# Altium footprint library PcbLib1.PcbLib: 13 footprints
Each footprint in its own frame and in the unit in brackets; x right, y up, seen from the top. Pads: shape width x height; smd on the part's side, far side on the other; paste and mask are expansions set on the pad; w line width, h text height; cw(c..) or ccw(c..) is an arc to the next point about the centre after c.
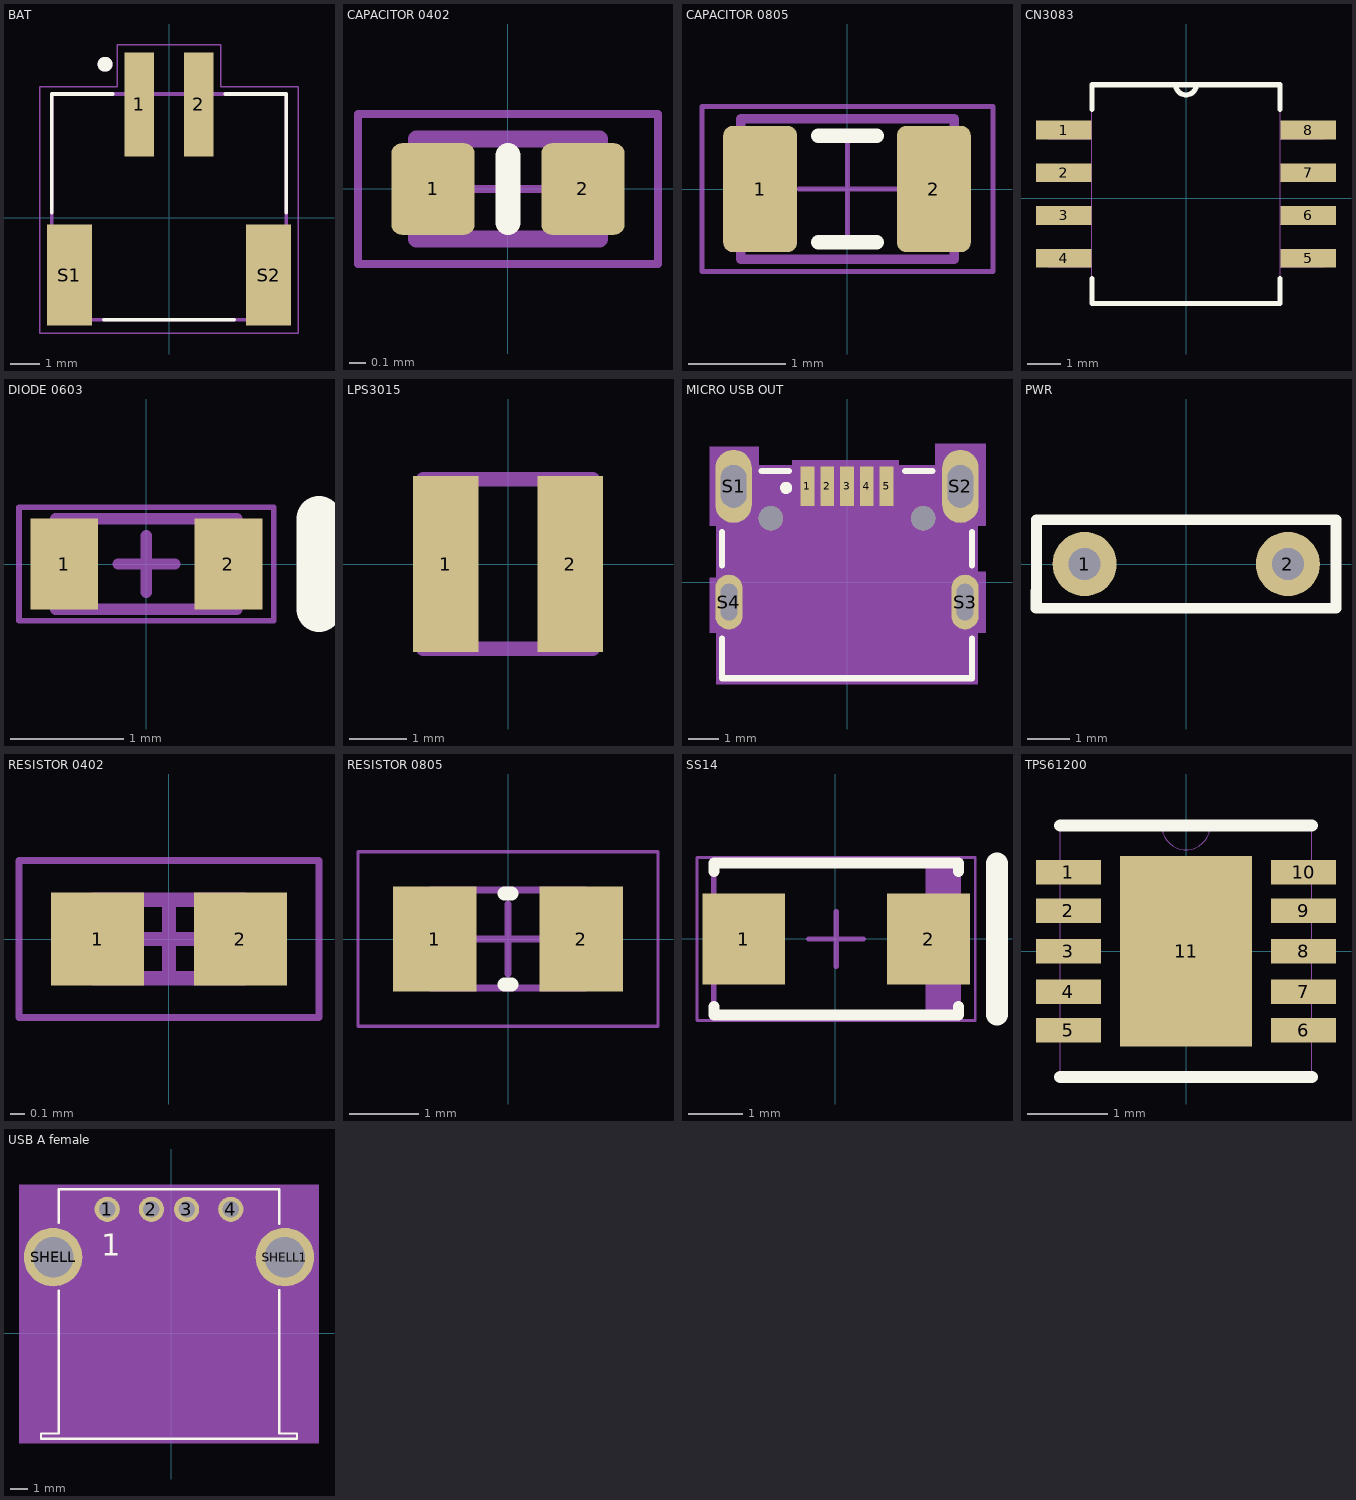
[diagram p0: the footprints below, top view; thin cyan lines are the x and y axes]

## BAT [mm]
pads (4):
  rect 1x3.5 smd: 1(-1,3.81) 2(1,3.81)
  rect 1.5x3.4 smd: S1(-3.35,-1.94) S2(3.35,-1.94)
Top Overlay:
  circle w0.3: c-2.15,5.16 r0.1
  lines w0.127: -3.95,0.16 -3.95,4.16 -1.9,4.16 ; -2.2,-3.44 2.2,-3.44 ; 1.9,4.16 3.95,4.16 3.95,0.16
Mechanical 13:
  circle w0.3: c-2.15,5.16 r0.1
  lines w0.127: -3.95,-3.44 -3.95,4.16 3.95,4.16 3.95,-3.44 -3.95,-3.44
Mechanical 15:
  lines w0.05: -4.35,-3.89 -4.35,4.41 -1.75,4.41 -1.75,5.81 1.75,5.81 1.75,4.41 4.35,4.41 4.35,-3.89 -4.35,-3.89
3D body "User Library-S2B-PH-SM4-TB.STEP": height 5.5, standoff -0.1, extent -3.963,-3.538 3.937,5.062

## CAPACITOR 0402 [mm]
pads (2):
  rrect25% 0.5x0.55 smd: 1(-0.45,0) 2(0.45,0)
Top Overlay:
  lines w0.15: 0,-0.2 0,0.2
Top Courtyard:
  lines w0.05: -0.275,0 0.275,0 ; 0,-0.275 0,0.275 ; -0.9,-0.45 -0.9,0.45 0.9,0.45 0.9,-0.45 -0.9,-0.45
Top Assembly:
  lines w0.1: -0.55,-0.3 0.55,-0.3 0.55,0.3 -0.55,0.3 -0.55,-0.3
Top Designator:
  text ".Designator" at -1.27,-0.127 h0.6
3D body "CAPC1005X60N EIA 0402.STEP": height 0.6, standoff 0, extent -0.5,-0.25 0.5,0.25

## CAPACITOR 0805 [mm]
pads (2):
  rrect25% 0.76x1.3 smd: 1(-0.9,0) 2(0.89,0)
Top Overlay:
  lines w0.15: -0.3,-0.55 0.3,-0.55 ; -0.3,0.55 0.3,0.55
Top Courtyard:
  lines w0.05: -0.5,0 0.5,0 ; 0,-0.5 0,0.5 ; -1.5,-0.85 -1.5,0.85 1.5,0.85 1.5,-0.85 -1.5,-0.85
Top Assembly:
  lines w0.1: -1.1,-0.725 1.1,-0.725 1.1,0.725 -1.1,0.725 -1.1,-0.725
Top Designator:
  text ".Designator" at -1.27,-0.127 h0.6
3D body "CAPC2012X145N EIA 0805.STEP": height 1.45, standoff 0, extent -1,-0.6 1,0.6

## CN3083 [mil]
pads (8):
  rect 65x22 smd: 1(-143,80) 2(-143,30) 3(-143,-20) 4(-143,-70) 5(143,-70) 6(143,-20) 7(143,30) 8(143,80)
Top Overlay:
  lines w6: -110,-94 -110,-123 110,-123 110,-94 ; -110,104 -110,133 -12,133 ; 110,104 110,133 12,133 ; -12,133 ccw(c0,133) 12,133 ; -12,133 12,133
Mechanical 13:
  lines w0: -12,133 ccw(c0,133) 12,133 ; -12,133 -110,133 -110,-123 110,-123 110,133 12,133 ; -12,133 12,133 ; -161,-80 -110,-80 -110,-60 -161,-60 -161,-80 ; -161,-30 -110,-30 -110,-10 -161,-10 -161,-30 ; -161,20 -110,20 -110,40 -161,40 -161,20 ; -161,70 -110,70 -110,90 -161,90 -161,70 ; 110,-80 161,-80 161,-60 110,-60 110,-80 ; 110,-30 161,-30 161,-10 110,-10 110,-30 ; 110,20 161,20 161,40 110,40 110,20 ; 110,70 161,70 161,90 110,90 110,70
3D body "CN3083.stp": height 68.9, standoff 0, extent -118.11,-91.46 118.11,101.46

## DIODE 0603 [mm]
pads (2):
  rect 0.6x0.8 smd: 1(-0.725,0) 2(0.725,0)
Top Overlay:
  lines w0.4: 1.525,-0.4 1.525,0.4
Mechanical 13:
  lines w0.1: -0.8,-0.4 0.8,-0.4 0.8,0.4 -0.8,0.4 -0.8,-0.4
Mechanical 15:
  lines w0.05: -1.125,-0.5 -1.125,0.5 1.125,0.5 1.125,-0.5 -1.125,-0.5
  lines w0.1: -0.25,0 0.25,0 ; 0,-0.25 0,0.25
3D body: height 0.65, standoff 0, extent -0.8,-0.4 0.8,0.4

## LPS3015 [mm]
pads (2):
  rect 1.14x3.05 smd: 1(-1.08,0) 2(1.08,0)
Mechanical 13:
  lines w0.254: -1.475,-1.475 1.475,-1.475 1.475,1.475 -1.475,1.475 -1.475,-1.475
3D body "User Library-LPS3015.step": height 1.4, standoff 0, extent -1.426,-1.475 1.524,1.475

## MICRO USB OUT [mm]
pads (11):
  rect 0.45x1.3 smd: 1(-1.3,3.154) 2(-0.65,3.154) 3(0,3.154) 4(0.65,3.154) 5(1.3,3.154)
  oval 1.2x2.4 hole 0.85 slot 1.4 at 90 deg: S1(-3.725,3.154) S2(3.725,3.154)
  oval 0.9x1.8 hole 0.55 slot 1.2 at 90 deg: S3(3.875,-0.646) S4(-3.875,-0.646)
  round 0.8 hole 0.8 unplated: ""(-2.5,2.104) ""(2.5,2.104)
Top Overlay:
  circle w0.2: c-2,3.104 r0.1
  lines w0.2: -4.1,-1.846 -4.1,-3.146 4.1,-3.146 4.1,-1.846 ; -4.1,0.554 -4.1,1.654 ; -2.8,3.654 -1.9,3.654 ; 1.9,3.654 2.8,3.654 ; 4.1,0.554 4.1,1.654
Mechanical 1:
  lines w0.01: -4.03,-1.246 -3.72,-1.246 ; -4.03,-0.046 -3.72,-0.046 ; -4,2.454 -3.45,2.454 ; -4,3.854 -3.45,3.854 ; 3.45,2.454 4,2.454 ; 3.45,3.854 4,3.854 ; 3.72,-1.246 4.03,-1.246 ; 3.72,-0.046 4.03,-0.046
Mechanical 13:
  lines w0.1: -4,-2.446 4,-2.446 ; -4,-2.446 -4,3.554 4,3.554 4,-2.446 ; -4,-2.446 -4,-3.046 4,-3.046 4,-2.446
  text "Recommonded PCB Layout Tinckness:1.2mm" at -4.1,-3.776 h0.3
  text "PCB Edge" at -1.2,-2.276 h0.41
Mechanical 15:
  region: 4.55,1.854 4.3,1.854 4.3,0.354 4.55,0.354 4.55,-1.646 4.3,-1.646 4.3,-3.346 -4.3,-3.346 -4.3,-1.646 -4.5,-1.646 -4.5,0.154 -4.3,0.154 -4.3,1.854 -4.5,1.854 -4.5,4.454 -2.9,4.454 -2.9,3.854 -1.8,3.854 -1.8,4.004 1.7,4.004 1.7,3.854 2.9,3.854 2.9,4.554 4.55,4.554
3D body "629105150521 (rev1).stp": height 1.67, standoff -2.85, extent -4,-3.064 4,3.539

## PWR [mil]
pads (2):
  round 60 hole 30: 1(-95,0) 2(95,0)
Top Overlay:
  lines w10: -140.47,-41.3 -140.47,-25.55 ; -140,-41.3 140,-41.3 140,41.38 -140,41.38 -140,-41.3

## RESISTOR 0402 [mm]
pads (2):
  rect 0.65x0.65 smd: 1(-0.5,0) 2(0.5,0)
Mechanical 13:
  lines w0.1: -0.525,-0.275 -0.525,0.275 0.525,0.275 0.525,-0.275 -0.525,-0.275
Mechanical 15:
  lines w0.05: -1.05,-0.55 -1.05,0.55 1.05,0.55 1.05,-0.55 -1.05,-0.55
  lines w0.1: -0.275,0 0.275,0 ; 0,-0.275 0,0.275
3D body "RESC1005X04M.step": height 0.4, standoff 0, extent -0.525,-0.275 0.525,0.275

## RESISTOR 0805 [mm]
pads (2):
  rect 1.2x1.5 smd: 1(-1.05,0) 2(1.05,0)
Top Overlay:
  lines w0.2: -0.05,-0.65 0.05,-0.65 ; -0.05,0.65 0.05,0.65
Mechanical 13:
  lines w0.1: -1.1,-0.7 -1.1,0.7 1.1,0.7 1.1,-0.7 -1.1,-0.7
Mechanical 15:
  lines w0.05: -2.15,-1.25 -2.15,1.25 2.15,1.25 2.15,-1.25 -2.15,-1.25
  lines w0.1: -0.5,0 0.5,0 ; 0,-0.5 0,0.5
3D body "RESC2112X05M.step": height 0.5, standoff 0, extent -1.1,-0.7 1.1,0.7

## SS14 [mm]
pads (2):
  rect 1.52x1.68 smd: 1(-1.688,-0.006) 2(1.712,-0.006)
Top Overlay:
  lines w0.2: -2.238,-1.246 -2.238,-1.406 2.262,-1.406 2.262,-1.246 ; -2.238,1.234 -2.238,1.394 2.262,1.394 2.262,1.234
  lines w0.4: 2.972,-1.401 2.972,1.389
Mechanical 13:
  rectangle: 1.657,-1.401 2.262,1.389
  lines w0.1: -2.238,-1.401 -2.238,1.389 2.262,1.389 2.262,-1.401 -2.238,-1.401
Mechanical 15:
  lines w0.05: -2.548,-1.506 -2.548,1.494 2.572,1.494 2.572,-1.506 -2.548,-1.506
  lines w0.1: -0.488,-0.006 0.512,-0.006 ; 0.012,-0.506 0.012,0.494
3D body "DIOM4227X23L.step": height 2.29, standoff 0, extent -2.458,-1.401 2.482,1.389

## TPS61200 [mil]
pads (11):
  rect 32x12 smd: 1(-58,39) 2(-58,20) 3(-58,0) 4(-58,-20) 5(-58,-39) 6(58,-39) 7(58,-20) 8(58,0) 9(58,20) 10(58,39)
  rect 65x94 smd: 11(0,0)
Top Overlay:
  lines w6: -62,-62 62,-62 ; -62,62 62,62
Mechanical 13:
  lines w0: -12,62 ccw(c0,62) 12,62 ; -12,62 -62,62 -62,-62 62,-62 62,62 12,62 ; -12,62 12,62
3D body "DRC10_2P4X1P65.step": height 39.49, standoff 0, extent -59.02,-61.02 59.01,61.02

## USB A female [mm]
pads (6):
  round 1.428 hole 0.92: 1(-3.627,7.028) 2(-1.127,7.028) 3(0.873,7.028) 4(3.373,7.028)
  round 3.316 hole 2.3: SHELL(-6.697,4.318) SHELL1(6.443,4.318)
Top Overlay:
  lines w0.127: -6.377,2.428 -6.377,-5.682 -7.377,-5.682 -7.377,-5.982 7.123,-5.982 7.123,-5.682 6.123,-5.682 ; -6.377,6.268 -6.377,8.168 6.123,8.168 6.123,6.188 ; 6.123,2.448 6.123,-5.682 ; 6.153,-5.672 6.123,-5.682
  text "1" at -3.977,4.388 h1.27
Mechanical 13:
  lines w0.127: -7.377,-5.982 -7.377,-5.682 -6.377,-5.682 -6.377,8.168 6.123,8.168 6.123,-5.682 7.123,-5.682 7.123,-5.982 -7.377,-5.982
  text "4" at 2.713,4.368 h1.27
  text "1" at -3.987,4.388 h1.27
Mechanical 15:
  region: 8.373,-6.232 -8.627,-6.232 -8.627,8.418 8.373,8.418
3D body "614004190021_Download_STP_614004190021_rev1.stp": height 4.2, standoff -7.2, extent -7.977,-5.989 7.723,8.161